# Altium footprint library PcbLib1.PcbLib: 1 footprints
Each footprint in its own frame and in the unit in brackets; x right, y up, seen from the top. Pads: shape width x height; smd on the part's side, far side on the other; paste and mask are expansions set on the pad; w line width, h text height; cw(c..) or ccw(c..) is an arc to the next point about the centre after c.
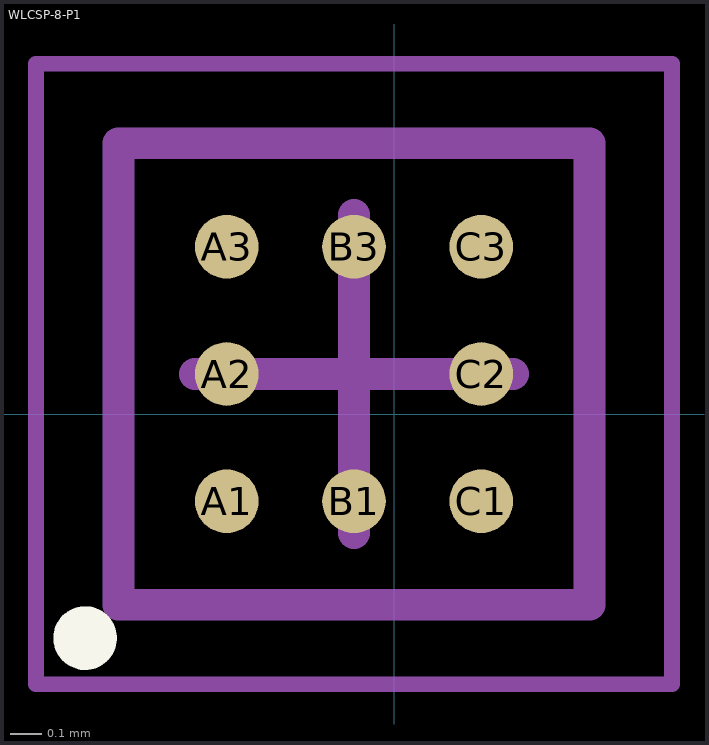
[diagram p0: the footprint, top view; thin cyan lines are the x and y axes]

## WLCSP-8-P1 [mm] "BGA, 9-Leads, Body 1.45x1.48mmx0.40mm, Pitch 0.40mm"
height 0.4
pads (8):
  round 0.2 smd: A1(-0.527,-0.273) A2(-0.527,0.127) A3(-0.527,0.527) B1(-0.127,-0.273) B3(-0.127,0.527) C1(0.273,-0.273) C2(0.273,0.127) C3(0.273,0.527)
Top Overlay:
  circle w0.1: c-0.972,-0.703 r0.05
Mechanical 13:
  lines w0.1: -0.867,-0.598 0.613,-0.598 0.613,0.852 -0.867,0.852 -0.867,-0.598
Mechanical 15:
  lines w0.05: -1.127,-0.848 0.873,-0.848 0.873,1.102 -1.127,1.102 -1.127,-0.848
  lines w0.1: -0.627,0.127 0.373,0.127 ; -0.127,-0.373 -0.127,0.627
3D body: height 0.4, standoff 0.08, extent -0.867,-0.598 0.613,0.852